# EAGLE library part TLW-118-05-G-S (library SAMTEC-Txx_By_element14_Batch_1)
CONNECTOR HEADER, 18 WAY, 1ROW
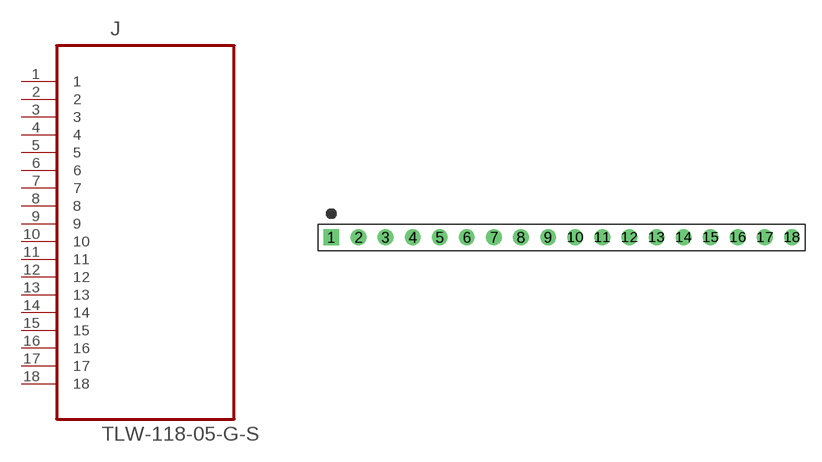
[diagram p237: symbol with the pads of SAMTEC_TLW-118-05-G-S; footprint SAMTEC_TLW-118-05-G-S]

Designator prefix J

## TLW-118-05-G-S (MPN: TLW-118-05-G-S; OC_FARNELL: 1668512; OC_NEWARK: 12P0499; PACKAGE: CONN HEADER 18 POS .100 inch; SUPPLIER: SAMTEC)  [SAMTEC_TLW-118-05-G-S]
1  1  pas
2  2  pas
3  3  pas
4  4  pas
5  5  pas
6  6  pas
7  7  pas
8  8  pas
9  9  pas
10  10  pas
11  11  pas
12  12  pas
13  13  pas
14  14  pas
15  15  pas
16  16  pas
17  17  pas
18  18  pas

## Footprint SAMTEC_TLW-118-05-G-S (pad centres in mm)
drill 0.965 square: 1 -43.18,0
drill 0.965: 2 -40.64,0; 3 -38.1,0; 4 -35.56,0; 5 -33.02,0; 6 -30.48,0; 7 -27.94,0; 8 -25.4,0; 9 -22.86,0; 10 -20.32,0; 11 -17.78,0; 12 -15.24,0; 13 -12.7,0; 14 -10.16,0; 15 -7.62,0; 16 -5.08,0; 17 -2.54,0; 18 0,0